# EAGLE library part IC_SENSOR_APDS9960 (library homemade-hardware)
APDS-9960 <https://www.digikey.com/product-detail/en/broadcom-limited/APDS-9960/516-3480-6-ND/6677182> - Digital Proximity Sensor with Ambient Light/RGB/Gesture Detection
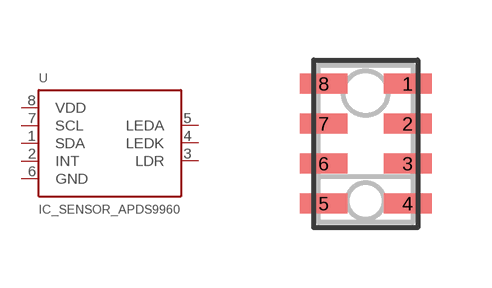
[diagram p21: symbol with the pads of APDS-9960; footprint APDS-9960]

Designator prefix U

## IC_SENSOR_APDS9960 (PN: APDS-9960)  [APDS-9960]
1  SDA
2  INT  out
3  LDR
4  LEDK
5  LEDA  pwr
6  GND  pwr
7  SCL  in
8  VDD  pwr

## Footprint APDS-9960 (pad centres in mm)
smd 1.2 x 0.5: 1 1.05,1.505; 2 1.05,0.505; 3 1.05,-0.495; 4 1.05,-1.495; 5 -1.05,-1.495; 6 -1.05,-0.495; 7 -1.05,0.505; 8 -1.05,1.505